# Altium schematic symbol library Fox_Schlib.SchLib: 13 symbols
Pins are listed as number, name and electrical type; pins without a type are passive.

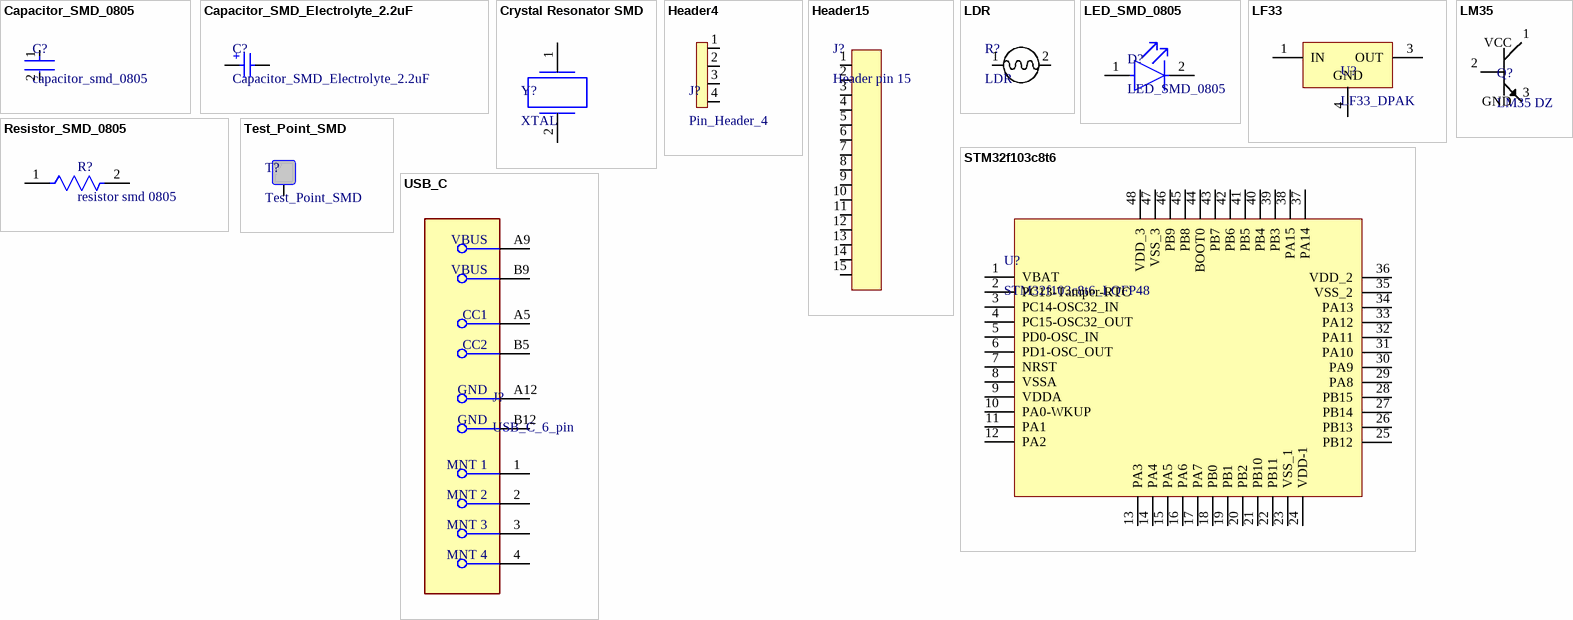
[diagram p0: symbols Capacitor_SMD_0805 to USB_C]

## Capacitor_SMD_0805
designator C?, comment capacitor_smd_0805
capacitor smd 0805
footprint Capacitor_SMD_0805 (capacitor smd 0805)
pins: 1, 2

## Capacitor_SMD_Electrolyte_2.2uF
designator C?
Capacitor SMD Electrolyte 2.2uF
footprint Capacitor_SMD_Electrolyte_2.2uF (Capacitor SMD Electrolyte 2.2uF)
pins: 1 P, 2 N
text: +

## Crystal Resonator SMD
designator Y?, comment XTAL
crystal resonator SMD 8MHz
footprint Crystal_Resonator_SMD_XTAL (crystal ceramic resonator xtal)
pins: 1, 2

## Header4
designator J?, comment Pin_Header_4
Pin Header 4
footprint Header4
pins: 1, 2, 3, 4

## Header15
designator J?, comment Header pin 15
footprint Header15 (Header pin 15)
pins: 1, 2, 3, 4, 5, 6, 7, 8, 9, 10, 11, 12, 13, 14, 15

## LDR
designator R?
LDR DIP
footprint LDR (LDR DIP)
pins: 1, 2

## LED_SMD_0805
designator D?
LED SMD 0805
footprint LED_SMD_0805 (LED SMD 0805)
pins: 1 A, 2 C

## LF33
designator U?, comment LF33_DPAK
LF33 DPAK 3.3 voltage regulator
footprint LF33 (LF33 DPAK 3.3 voltage regulator)
pins: 1 IN (power), 3 OUT, 4 GND (power)

## LM35
designator Q?, comment LM35 DZ
footprint LM35 (LM35 DZ Dip)
pins: 1 VCC, 2, 3 GND

## Resistor_SMD_0805
designator R?, comment resistor smd 0805
footprint Resistor_SMD_0805 (resistor smd 0805)
pins: 1, 2

## STM32f103c8t6
designator U?, comment STM32f103c8t6_LQFP48
STM32f103c8t6 LQFP48
footprint STM32f103c8t6_LQFP48
pins: 1 VBAT, 2 PC13-Tamper-RTC, 3 PC14-OSC32_IN, 4 PC15-OSC32_OUT, 5 PD0-OSC_IN, 6 PD1-OSC_OUT, 7 NRST, 8 VSSA, 9 VDDA, 10 PA0-WKUP, 11 PA1, 12 PA2, 13 PA3, 14 PA4, 15 PA5, 16 PA6, 17 PA7, 18 PB0, 19 PB1, 20 PB2, 21 PB10, 22 PB11, 23 VSS_1, 24 VDD-1, 25 PB12, 26 PB13, 27 PB14, 28 PB15, 29 PA8, 30 PA9, 31 PA10, 32 PA11, 33 PA12, 34 PA13, 35 VSS_2, 36 VDD_2, 37 PA14, 38 PA15, 39 PB3, 40 PB4, 41 PB5, 42 PB6, 43 PB7, 44 BOOT0, 45 PB8, 46 PB9, 47 VSS_3, 48 VDD_3

## Test_Point_SMD
designator T?
Test Point SMD
footprint TEST_Point_SMD
pins: 1

## USB_C
designator J?, comment USB_C_6_pin
USB C connector 6 pin
footprint USB_C_6_pin (USB C connector 6 pin)
pins: 1 MNT 1, 2 MNT 2, 3 MNT 3, 4 MNT 4, A5 CC1, A9 VBUS, A12 GND, B5 CC2, B9 VBUS, B12 GND